# Altium schematic symbol library EC11E15244G1.SchLib: 1 symbol
Pins are listed as number, name and electrical type; pins without a type are passive.

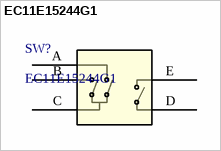
[diagram p0: symbol EC11E15244G1]

## EC11E15244G1
designator SW?
Description; Manufacturer_Name: Alps Electric; Type: Encoders; Copyright: Copyright (C) 2025 Ultra Librarian. All rights reserved.; Manufacturer_Part_Number: EC11E15244G1; RefDes: RefDes
footprint EC11E15244G1_AAL
pins: A, B, C, D, E